# Altium footprint library auto_turn_components.PcbLib: 24 footprints (part 2 of 2)
Each footprint in its own frame and in the unit in brackets; x right, y up, seen from the top. Pads: shape width x height; smd on the part's side, far side on the other; paste and mask are expansions set on the pad; w line width, h text height; cw(c..) or ccw(c..) is an arc to the next point about the centre after c.
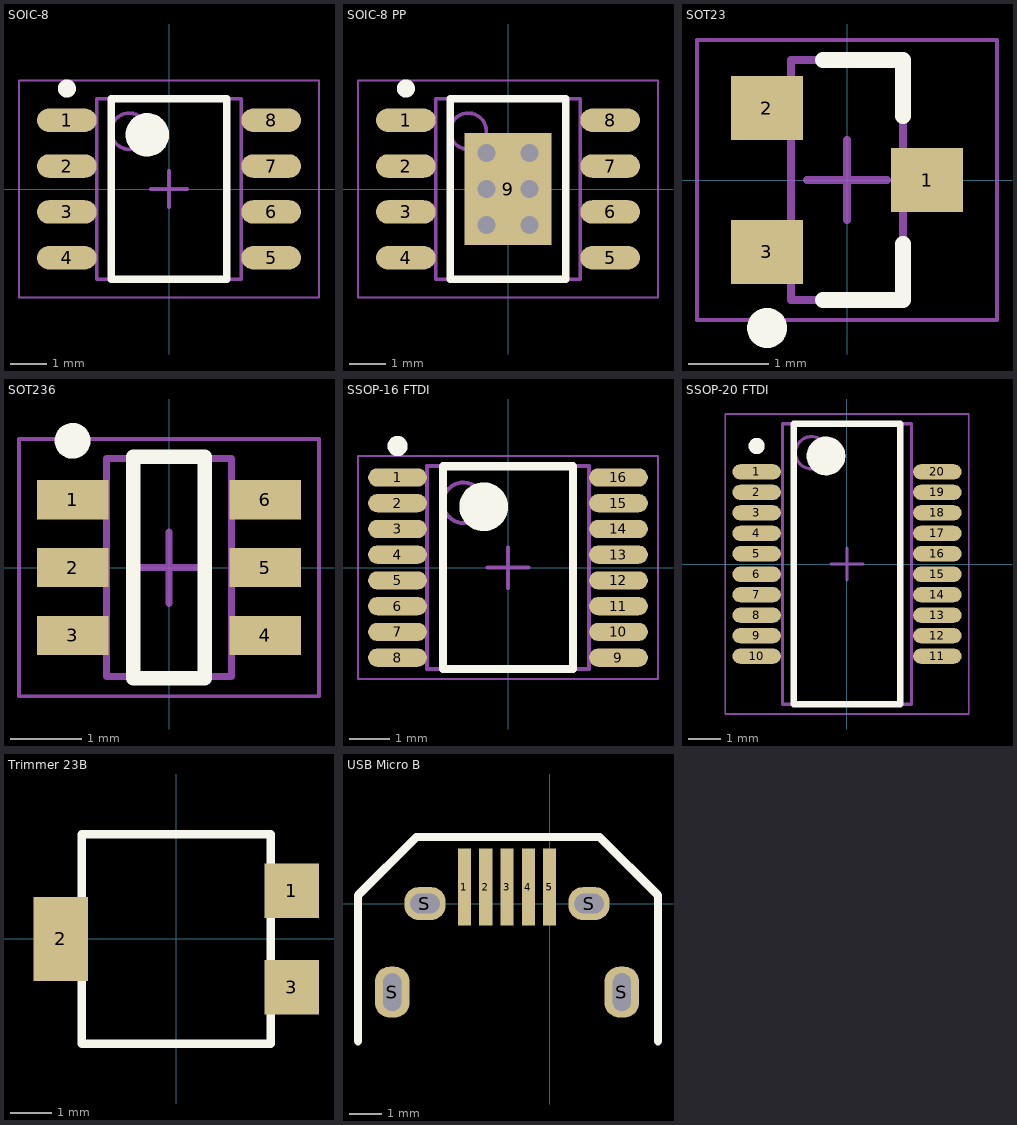
[diagram p1: the footprints below, top view; thin cyan lines are the x and y axes]

## SOIC-8 [mm] "SOIC-8 from TI datasheet"
height 2.65
pads (8):
  oval 1.65x0.65 smd: 1(-2.825,1.905) 2(-2.825,0.635) 3(-2.825,-0.635) 4(-2.825,-1.905) 5(2.825,-1.905) 6(2.825,-0.635) 7(2.825,0.635) 8(2.825,1.905)
Top Overlay:
  circle w0.6: c-0.6,1.5 r0.3
  circle w0.25: c-2.825,2.78 r0.125
  lines w0.2: -1.6,-2.5 1.6,-2.5 1.6,2.5 -1.6,2.5 -1.6,-2.5
Mechanical 13:
  circle w0.1: c-1.1,1.6 r0.5
  lines w0.1: -2,-2.5 2,-2.5 2,2.5 -2,2.5 -2,-2.5
Mechanical 15:
  lines w0.05: -4.15,-3 4.15,-3 4.15,3 -4.15,3 -4.15,-3
  lines w0.1: -0.5,0 0.5,0 ; 0,-0.5 0,0.5
3D body "SOIC-8.step": height 2.65, standoff 0, extent -3,-2.5 3,2.5

## SOIC-8 PP [mm] "SOIC-8 with power pad from TI datasheet"
height 2.65
pads (9):
  oval 1.65x0.65 smd: 1(-2.825,1.905) 2(-2.825,0.635) 3(-2.825,-0.635) 4(-2.825,-1.905) 5(2.825,-1.905) 6(2.825,-0.635) 7(2.825,0.635) 8(2.825,1.905)
  rect 2.4x3.1 smd: 9(0,0)
via 0.6,-1 diameter 0.8 hole 0.5
via -0.6,-1 diameter 0.8 hole 0.5
via -0.6,1 diameter 0.8 hole 0.5
via -0.6,0 diameter 0.8 hole 0.5
via 0.6,1 diameter 0.8 hole 0.5
via 0.6,0 diameter 0.8 hole 0.5
Top Overlay:
  circle w0.25: c-2.825,2.78 r0.125
  lines w0.2: -1.6,-2.5 -1.6,2.5 1.6,2.5 1.6,-2.5 -1.6,-2.5
Mechanical 13:
  circle w0.1: c-1.1,1.6 r0.5
  lines w0.1: -2,-2.5 -2,2.5 2,2.5 2,-2.5 -2,-2.5
Mechanical 15:
  lines w0.05: -4.15,-3 -4.15,3 4.15,3 4.15,-3 -4.15,-3
  lines w0.1: -0.5,0 0.5,0 ; 0,-0.5 0,0.5
3D body "SOIC-8 PP.step": height 2.65, standoff 0, extent -3,-2.5 3,2.5

## SOT23 [mm] "SOT23, 3-Leads, Body 2.90x2.40mm, Pitch 0.90mm, IPC Medium Density"
height 1.1
pads (3):
  rect 0.9x0.8 smd: 1(1,0) 2(-1,0.9) 3(-1,-0.9)
Top Overlay:
  circle w0.25: c-1,-1.85 r0.125
  lines w0.2: -0.3,-1.5 0.7,-1.5 0.7,-0.8 ; -0.3,1.5 0.7,1.5 0.7,0.8
Mechanical 13:
  lines w0.1: -0.7,-1.5 0.7,-1.5 0.7,1.5 -0.7,1.5 -0.7,-1.5
Mechanical 15:
  lines w0.05: -1.875,-1.75 1.875,-1.75 1.875,1.75 -1.875,1.75 -1.875,-1.75
  lines w0.1: -0.5,0 0.5,0 ; 0,-0.5 0,0.5
3D body: height 1.1, standoff 0.01, extent -0.7,-1.5 0.7,1.5

## SOT236 [mm] "SOT23, 6-Leads, Body 2.90x2.80mm, Pitch 0.95mm, IPC Medium Density"
height 1.45
pads (6):
  rect 1x0.55 smd: 1(-1.35,0.95) 2(-1.35,0) 3(-1.35,-0.95) 4(1.35,-0.95) 5(1.35,0) 6(1.35,0.95)
Top Overlay:
  circle w0.25: c-1.35,1.775 r0.125
  lines w0.2: -0.5,-1.55 0.5,-1.55 0.5,1.55 -0.5,1.55 -0.5,-1.55
Mechanical 13:
  lines w0.1: -0.875,-1.525 -0.875,1.525 0.875,1.525 0.875,-1.525 -0.875,-1.525
Mechanical 15:
  lines w0.05: -2.1,-1.8 -2.1,1.8 2.1,1.8 2.1,-1.8 -2.1,-1.8
  lines w0.1: -0.5,0 0.5,0 ; 0,-0.5 0,0.5
3D body "SOT95P280X145-6N.step": height 1.45, standoff 0, extent -1.5,-1.525 1.5,1.525

## SSOP-16 FTDI [mm] "SOP, 16-Leads, Body 4.90x3.90mm, Pitch 0.64mm, IPC Medium Density"
height 1.75
pads (16):
  oval 1.45x0.45 smd: 1(-2.725,2.222) 2(-2.725,1.587) 3(-2.725,0.953) 4(-2.725,0.318) 5(-2.725,-0.318) 6(-2.725,-0.953) 7(-2.725,-1.587) 8(-2.725,-2.222) 9(2.725,-2.222) 10(2.725,-1.587) 11(2.725,-0.953) 12(2.725,-0.318) 13(2.725,0.318) 14(2.725,0.953) 15(2.725,1.587) 16(2.725,2.222)
Top Overlay:
  circle w0.25: c-2.725,2.997 r0.125
  circle w0.6: c-0.6,1.5 r0.3
  lines w0.2: -1.6,-2.5 -1.6,2.5 1.6,2.5 1.6,-2.5 -1.6,-2.5
Mechanical 13:
  circle w0.1: c-1.1,1.6 r0.5
  lines w0.1: -2,-2.5 -2,2.5 2,2.5 2,-2.5 -2,-2.5
Mechanical 15:
  lines w0.05: -3.7,-2.75 -3.7,2.75 3.7,2.75 3.7,-2.75 -3.7,-2.75
  lines w0.1: -0.5,0 0.5,0 ; 0,-0.5 0,0.5
3D body "SSOP-16 FTDI.step": height 1.75, standoff 0, extent -3,-2.5 3,2.5

## SSOP-20 FTDI [mm] "FTDI description of SSOP-20 for FT231X, imperial"
height 1.75
pads (20):
  oval 1.5x0.47 smd: 1(-2.8,2.857) 2(-2.8,2.222) 3(-2.8,1.587) 4(-2.8,0.953) 5(-2.8,0.318) 6(-2.8,-0.318) 7(-2.8,-0.953) 8(-2.8,-1.587) 9(-2.8,-2.222) 10(-2.8,-2.857) 11(2.8,-2.857) 12(2.8,-2.222) 13(2.8,-1.587) 14(2.8,-0.953) 15(2.8,-0.318) 16(2.8,0.318) 17(2.8,0.953) 18(2.8,1.587) 19(2.8,2.222) 20(2.8,2.857)
Top Overlay:
  circle w0.25: c-2.8,3.658 r0.125
  circle w0.6: c-0.65,3.35 r0.3
  lines w0.2: -1.65,-4.35 -1.65,4.35 1.65,4.35 1.65,-4.35 -1.65,-4.35
Mechanical 13:
  circle w0.1: c-1.1,3.45 r0.5
  lines w0.1: -2,-4.35 -2,4.35 2,4.35 2,-4.35 -2,-4.35
Mechanical 15:
  lines w0.05: -3.775,-4.65 -3.775,4.65 3.775,4.65 3.775,-4.65 -3.775,-4.65
  lines w0.1: -0.5,0 0.5,0 ; 0,-0.5 0,0.5
3D body "SSOP-20 FTDI.step": height 1.75, standoff 0, extent -3.1,-4.35 3.1,4.35

## Trimmer 23B [mm] "Trimmer Pot"
pads (3):
  rect 1.3x1.3 smd: 1(2.75,1.15) 3(2.75,-1.15)
  rect 1.3x2 smd: 2(-2.75,0)
Top Overlay:
  lines w0.2: -2.25,-2.5 -2.25,2.5 2.25,2.5 2.25,-2.5 -2.25,-2.5

## USB Micro B [mm] "FCI 10118194"
pads (9):
  rect 0.4x2.35 smd: 1(-2.6,0.5) 2(-1.95,0.5) 3(-1.3,0.5) 4(-0.65,0.5) 5(0,0.5)
  rrect85% 1.05x1.55 hole 0.55 slot 1.15 at 90 deg: S(-4.8,-2.7) S(2.2,-2.7)
  rrect85% 1.25x1 hole 0.6 slot 0.9 at 0 deg: S(-3.8,0) S(1.2,0)
Top Overlay:
  lines w0.254: -5.842,-4.191 -5.842,0.254 -4.064,2.032 1.524,2.032 3.302,0.254 3.302,-4.191